# Altium schematic symbol library Sch_DC_Componets.SchLib: 1 symbol
Pins are listed as number, name and electrical type; pins without a type are passive.

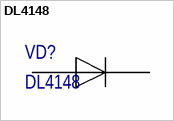
[diagram p0: symbol DL4148]

## DL4148
designator VD?
Surface Mount Switching Diode, 100 V, 150 mA; Manufacturer: DC Components; Part Number: DL4148
footprint SOD-80 (MELF Diode, 2-Leads, Body 3,50x1,50mm, IPC Medium Density)
pins: 1, 2